# Altium footprint library WE-FAMI.PcbLib: 17 footprints (part 2 of 2)
Each footprint in its own frame and in the unit in brackets; x right, y up, seen from the top. Pads: shape width x height; smd on the part's side, far side on the other; paste and mask are expansions set on the pad; w line width, h text height; cw(c..) or ccw(c..) is an arc to the next point about the centre after c.
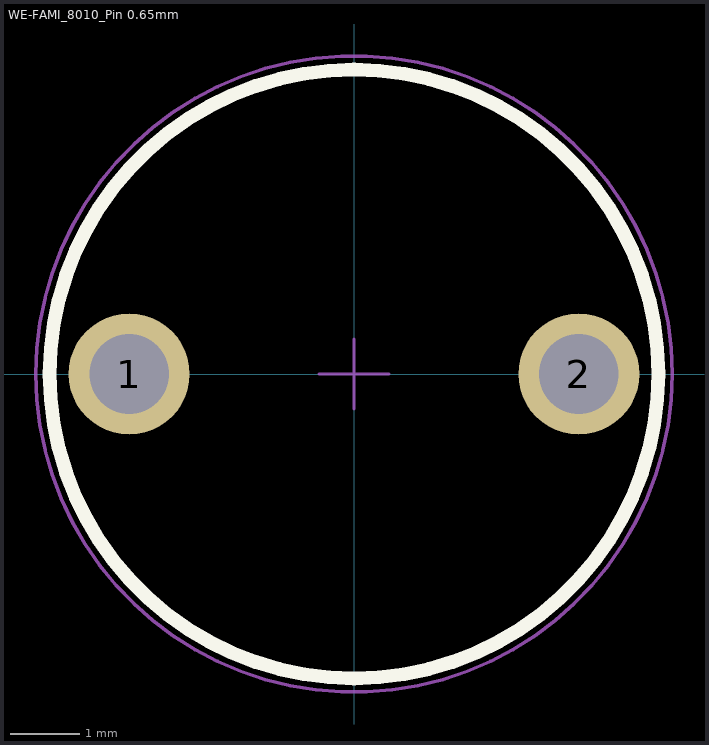
[diagram p1: the footprint, top view; thin cyan lines are the x and y axes]

## WE-FAMI_8010_Pin 0.65mm [mm] "THT Power Inductor, 2-Leads, body diameter 8.8mm"
height 11
pads (2):
  round 1.75 hole 1.15: 1(-3.25,0) 2(3.25,0)
Top Overlay:
  circle w0.2: c0,0 r4.4
Top Designator:
  text ".Designator" at -7.498,-0.5 h1.5
Top Component Outline:
  circle w0.1: c0,0 r4.4
Top 3D Body:
  circle w0.1: c0,0 r4.4
Top Courtyard:
  circle w0.05: c0,0 r4.6
  lines w0.05: -0.5,0 0.5,0 ; 0,-0.5 0,0.5
3D body "744750230xxx_Pin 0,65mm.stp": height 11.05, standoff -4.95, extent -4.4,-4.4 4.4,4.4